# EAGLE library part 8-1415536-6 (library Relays)
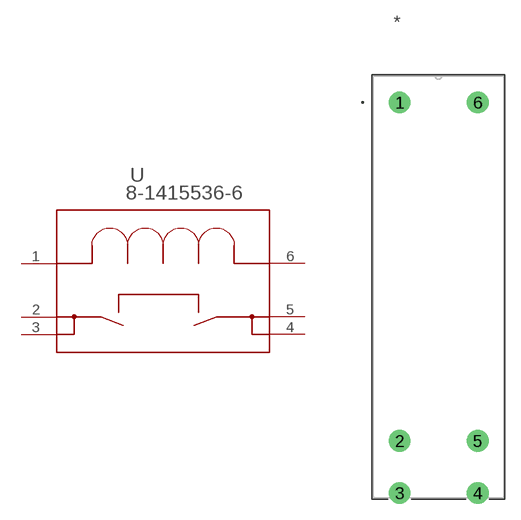
[diagram p78: symbol with the pads of RELAY6-492X1594_1122; footprint RELAY6-492X1594_1122]

Designator prefix U

## 8-1415536-6 (BUILT_BY: EMA_UL_Team; CATEGORY: Power Relays; COPYRIGHT: Copyright (C) 2016 Accelerated Designs. All rights reserved; DESCRIPTION: 0410 83 046 001WG; MANUFACTURER_PART_NUMBER: 8-1415536-6; PART_STATUS: active; SERIES: SCHRACK 41083; VENDOR: TE Connectivity)  [RELAY6-492X1594_1122]
1  1  pas
2  2  pas
3  3  pas
4  4  pas
5  5  pas
6  6  pas

## Footprint RELAY6-492X1594_1122 (pad centres in mm)
drill 1.397 pad 1.905: 1 -7.493,35.484; 2 -7.493,2.997; 3 -7.493,-2.007; 4 0,-2.007; 5 0,2.997; 6 0,35.484